# Altium footprint library QFN40P260X180X55-16N.PcbLib: 1 footprints
Each footprint in its own frame and in the unit in brackets; x right, y up, seen from the top. Pads: shape width x height; smd on the part's side, far side on the other; paste and mask are expansions set on the pad; w line width, h text height; cw(c..) or ccw(c..) is an arc to the next point about the centre after c.
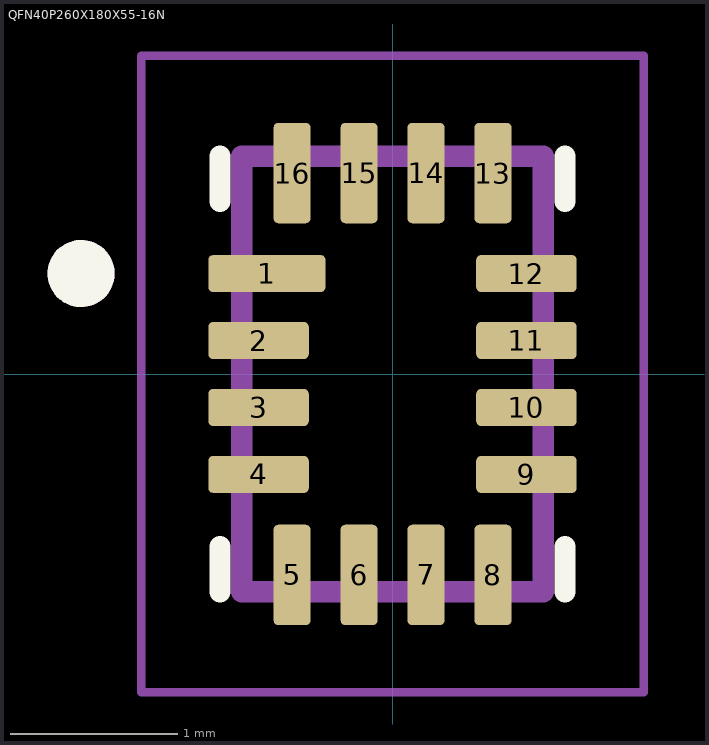
[diagram p0: the footprint, top view; thin cyan lines are the x and y axes]

## QFN40P260X180X55-16N [mm]
pads (16):
  rrect25% 0.7x0.22 smd: 1(-0.75,0.6)
  rrect25% 0.6x0.22 smd: 2(-0.8,0.2) 3(-0.8,-0.2) 4(-0.8,-0.6) 9(0.8,-0.6) 10(0.8,-0.2) 11(0.8,0.2) 12(0.8,0.6)
  rrect25% 0.22x0.6 smd: 5(-0.6,-1.2) 6(-0.2,-1.2) 7(0.2,-1.2) 8(0.6,-1.2) 13(0.6,1.2) 14(0.2,1.2) 15(-0.2,1.2) 16(-0.6,1.2)
Top Overlay:
  circle w0.2: c-1.86,0.6 r0.1
  lines w0.127: -1.03,-1.3 -1.03,-1.03 ; -1.03,1.03 -1.03,1.3 ; 1.03,-1.3 1.03,-1.03 ; 1.03,1.03 1.03,1.3
Mechanical 13:
  circle w0.2: c-1.86,0.6 r0.1
  lines w0.127: -0.9,-1.3 0.9,-1.3 0.9,1.3 -0.9,1.3 -0.9,-1.3
Mechanical 15:
  lines w0.05: -1.5,-1.9 1.5,-1.9 1.5,1.9 -1.5,1.9 -1.5,-1.9
3D body "step_temp.STEP": height 0.55, standoff 0, extent -0.9,-1.3 0.9,1.3